# Altium footprint library 52230042.PcbLib: 1 footprints
Each footprint in its own frame and in the unit in brackets; x right, y up, seen from the top. Pads: shape width x height; smd on the part's side, far side on the other; paste and mask are expansions set on the pad; w line width, h text height; cw(c..) or ccw(c..) is an arc to the next point about the centre after c.
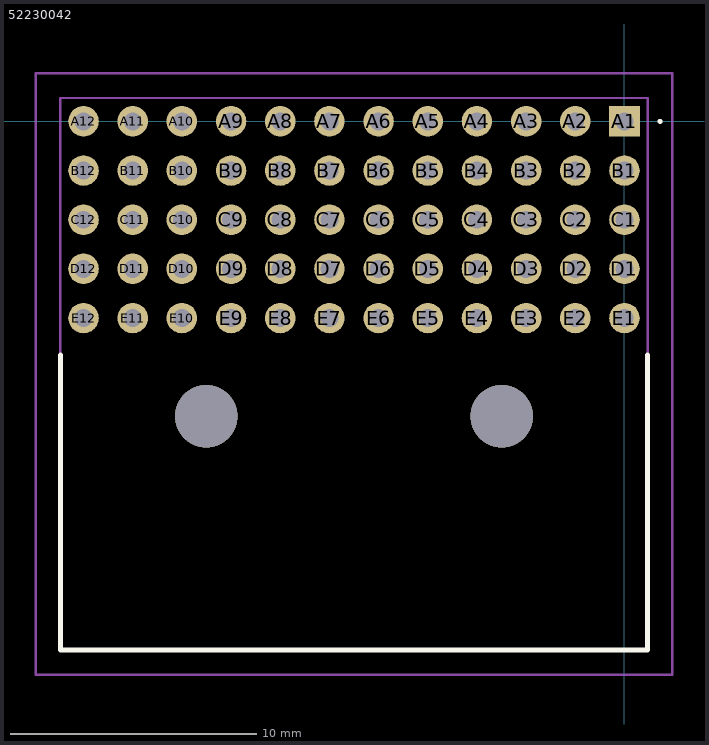
[diagram p0: the footprint, top view; thin cyan lines are the x and y axes]

## 52230042 [mm]
pads (60):
  rect 1.243x1.243 hole 0.725: A1(0,0)
  round 1.243 hole 0.725: A2(-2,0) A3(-4,0) A4(-6,0) A5(-8,0) A6(-10,0) A7(-12,0) A8(-14,0) A9(-16,0) A10(-18,0) A11(-20,0) A12(-22,0) B1(0,-2) B2(-2,-2) B3(-4,-2) B4(-6,-2) B5(-8,-2) B6(-10,-2) B7(-12,-2) B8(-14,-2) B9(-16,-2) B10(-18,-2) B11(-20,-2) B12(-22,-2) C1(0,-4) C2(-2,-4) C3(-4,-4) C4(-6,-4) C5(-8,-4) C6(-10,-4) C7(-12,-4) C8(-14,-4) C9(-16,-4) C10(-18,-4) C11(-20,-4) C12(-22,-4) D1(0,-6) D2(-2,-6) D3(-4,-6) D4(-6,-6) D5(-8,-6) D6(-10,-6) D7(-12,-6) D8(-14,-6) D9(-16,-6) D10(-18,-6) D11(-20,-6) D12(-22,-6) E1(0,-8) E2(-2,-8) E3(-4,-8) E4(-6,-8) E5(-8,-8) E6(-10,-8) E7(-12,-8) E8(-14,-8) E9(-16,-8) E10(-18,-8) E11(-20,-8) E12(-22,-8)
via -5,-12 diameter 2.54 hole 2.54
via -17,-12 diameter 2.54 hole 2.54
Top Overlay:
  lines w0.1: 1.4,0 ccw(c1.45,0) 1.5,0 ccw(c1.45,0) 1.4,0
  lines w0.2: -22.94,-9.5 -22.94,-21.5 0.94,-21.5 0.94,-9.5
Mechanical 15:
  lines w0.1: -22.94,-21.5 0.94,-21.5 0.94,0.95 -22.94,0.95 -22.94,-21.5
Mechanical 20:
  lines w0.1: -23.94,-22.5 1.94,-22.5 1.94,1.95 -23.94,1.95 -23.94,-22.5